# EAGLE library part NC7W*14 (library fairchild-tinylogic)
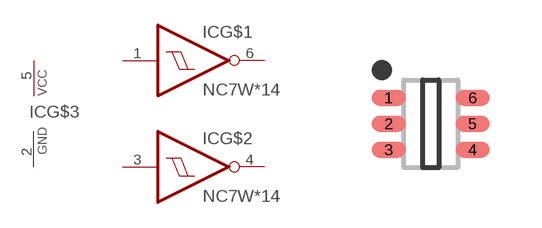
[diagram p1: symbol with the pads of SOT65P210X110-6AN_SC88_SC70-6; footprint SOT65P210X110-6AN_SC88_SC70-6]

Designator prefix IC; gates G$1=INVERTER_SCHMITT G$2=INVERTER_SCHMITT G$3=PWRN

## NC7WP14P6X, NC7WV14P6X, NC7WZ14P6X  [SOT65P210X110-6AN_SC88_SC70-6]
1  G$1:I  in
2  G$3:GND  pwr
3  G$2:I  in
4  G$2:O  out
5  G$3:VCC  pwr
6  G$1:O  out

## Footprint SOT65P210X110-6AN_SC88_SC70-6 (pad centres in mm)
smd 0.85 x 0.4: 1 -1.05,0.65; 2 -1.05,0; 3 -1.05,-0.65; 4 1.05,-0.65; 5 1.05,0; 6 1.05,0.65